# Altium footprint library TE_440055-4.PcbLib: 1 footprints
Each footprint in its own frame and in the unit in brackets; x right, y up, seen from the top. Pads: shape width x height; smd on the part's side, far side on the other; paste and mask are expansions set on the pad; w line width, h text height; cw(c..) or ccw(c..) is an arc to the next point about the centre after c.
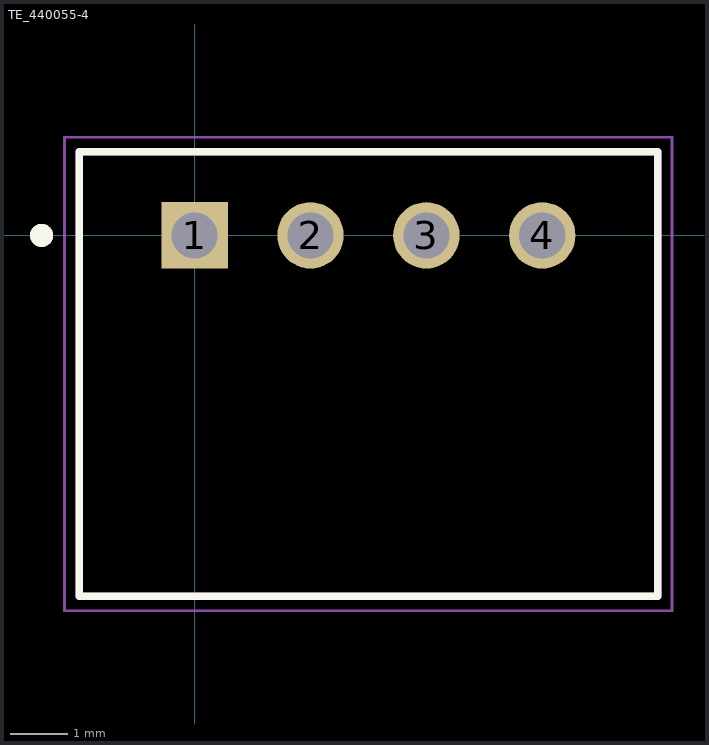
[diagram p0: the footprint, top view; thin cyan lines are the x and y axes]

## TE_440055-4 [mm]
pads (4):
  rect 1.15x1.15 hole 0.8: 1(0,0)
  round 1.15 hole 0.8: 2(2.007,0) 3(4.013,0) 4(6.02,0)
Top Overlay:
  circle w0.2: c-2.65,0 r0.1
  lines w0.127: -2,-6.25 8.02,-6.25 8.02,1.45 -2,1.45 -2,-6.25
Mechanical 13:
  circle w0.2: c-2.65,0 r0.1
  lines w0.127: -2,-6.25 8.02,-6.25 ; -2,-6.25 8.02,-6.25 ; -2,-6.25 -2,1.45 8.02,1.45 8.02,-6.25
Mechanical 15:
  lines w0.05: -2.25,-6.5 8.27,-6.5 8.27,1.7 -2.25,1.7 -2.25,-6.5
3D body "User Library-PCB HEADER (JST SxB-PH-K-S (RIGHT ANGLE)).step": height 4.9, standoff -1.9, extent -1.902,-6.762 7.998,0.838